# Altium integrated library NCP1117ST50T3G.IntLib: 1 symbol
Pins are listed as number, name and electrical type; pins without a type are passive.

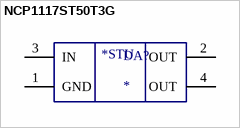
[diagram p0: symbol NCP1117ST50T3G]

## NCP1117ST50T3G
designator DA?
Linear Voltage Regulator IC 1 Output 1A SOT-223; MP: NCP1117ST50T3G; MF: ON Semiconductor; Package: TO-261-4 ON Semiconductor; Price: None; Value: *; SnapEDA_Link: https://www.snapeda.com/parts/NCP1117ST50T3G/ON%20Semiconductor/view-part/836318/?ref=snap; Availability: Unavailable
footprint SOT230P700X180-4N
pins: 1 GND, 2 OUT, 3 IN, 4 OUT
text: *STU